# Altium footprint library PcbLib1_2019.2.10.PcbLib: 87 footprints (part 1 of 6)
Each footprint in its own frame and in the unit in brackets; x right, y up, seen from the top. Pads: shape width x height; smd on the part's side, far side on the other; paste and mask are expansions set on the pad; w line width, h text height; cw(c..) or ccw(c..) is an arc to the next point about the centre after c.
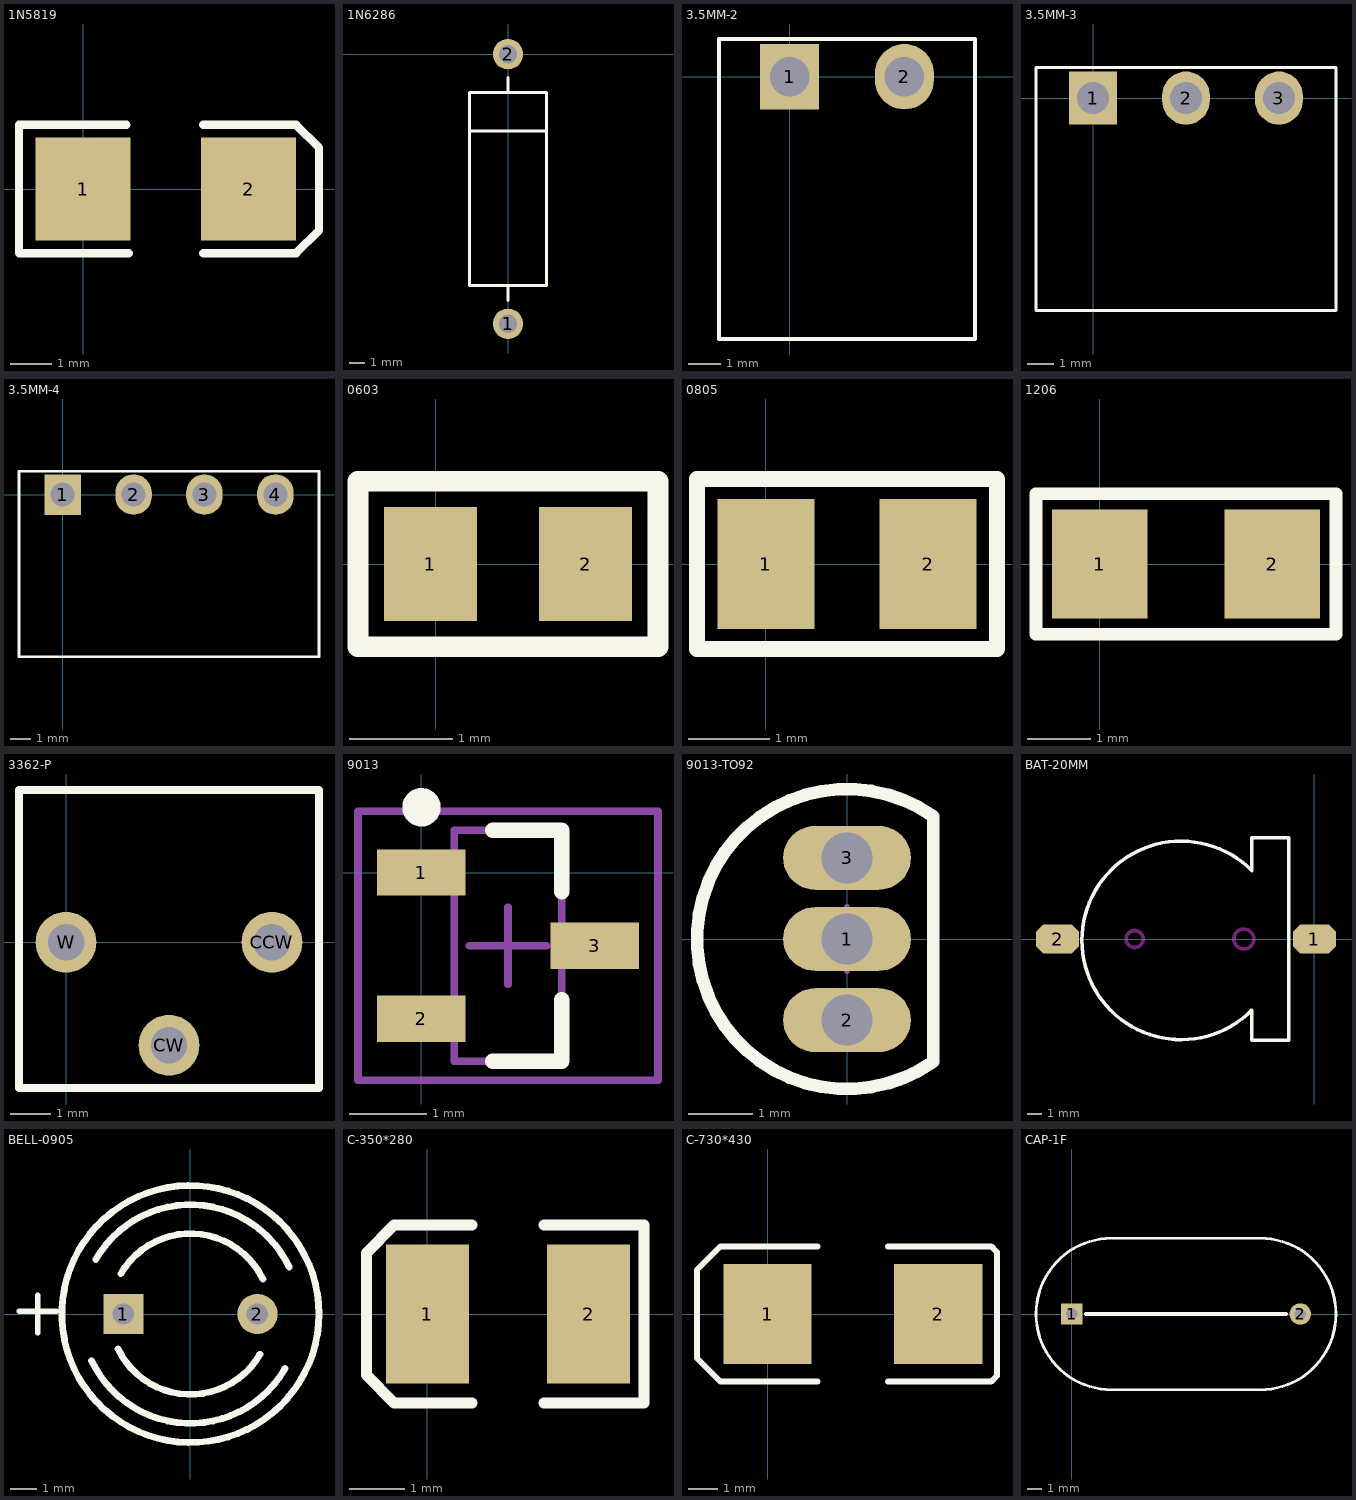
[diagram p0: the footprints below, top view; thin cyan lines are the x and y axes]

## 1N5819 [mm]
pads (2):
  rect 2.3x2.5 smd: 1(0,0) 2(4,0)
Top Overlay:
  lines w0.2: 1.05,1.55 -1.55,1.55 -1.55,-1.55 1.1,-1.55 ; 2.9,-1.55 5.15,-1.55 5.7,-1 5.7,1 5.15,1.55 2.9,1.55

## 1N6286 [mm]
pads (2):
  round 2 hole 1.2: 1(0,-17.78) 2(0,0)
Top Overlay:
  lines w0.2: -2.54,-5.08 2.54,-5.08 ; 0,-16.256 0,-15.24 ; 0,-2.54 0,-1.524 ; -2.54,-15.24 -2.54,-2.54 2.54,-2.54 2.54,-15.24 -2.54,-15.24

## 3.5MM-2 [mm]
pads (2):
  rect 1.8x2 hole 1.2: 1(0,0)
  oval 1.8x2 hole 1.2: 2(3.5,0)
Top Overlay:
  lines w0.127: -2.15,-8 5.65,-8 5.65,1.15 -2.15,1.15 -2.15,-8

## 3.5MM-3 [mm]
pads (3):
  rect 1.8x2 hole 1.2: 1(0,0)
  oval 1.8x2 hole 1.2: 2(3.5,0) 3(7,0)
Top Overlay:
  lines w0.127: -2.15,-8 -2.15,1.15 9.15,1.15 9.15,-8 -2.15,-8

## 3.5MM-4 [mm]
pads (4):
  rect 1.8x2 hole 1.2: 1(0,0)
  oval 1.8x2 hole 1.2: 2(3.5,0) 3(7,0) 4(10.5,0)
Top Overlay:
  lines w0.127: -2.15,-8 -2.15,1.15 12.65,1.15 12.65,-8 -2.15,-8

## 0603 [mm]
pads (2):
  rect 0.9x1.1 smd: 1(-0.05,0) 2(1.45,0)
Top Overlay:
  lines w0.2: -0.75,-0.8 -0.75,0.8 2.15,0.8 2.15,-0.8 -0.75,-0.8

## 0805 [mm]
pads (2):
  rect 1.2x1.6 smd: 1(0,0) 2(2,0)
Top Overlay:
  lines w0.2: -0.85,-1.05 -0.85,1.05 2.85,1.05 2.85,-1.05 -0.85,-1.05

## 1206 [mm]
pads (2):
  rect 1.5x1.7 smd: 1(0,0) 2(2.7,0)
Top Overlay:
  lines w0.2: -1,-1.1 3.7,-1.1 3.7,1.1 -1,1.1 -1,-1.1

## 3362-P [mm]
pads (3):
  round 1.5 hole 0.9: CCW(5.08,0) CW(2.54,-2.54) W(0,0)
Top Overlay:
  lines w0.2: -1.16,-3.6 6.24,-3.6 6.24,3.76 -1.16,3.76 -1.16,-3.6

## 9013 [mm]
pads (3):
  rect 1.15x0.6 smd: 1(0,0) 2(0,-1.9) 3(2.25,-0.95)
Top Overlay:
  circle w0.25: c0,0.85 r0.125
  lines w0.2: 0.925,-2.45 1.825,-2.45 1.825,-1.65 ; 0.925,0.55 1.825,0.55 1.825,-0.25
Mechanical 13:
  lines w0.1: 0.425,-2.45 0.425,0.55 1.825,0.55 1.825,-2.45 0.425,-2.45
Mechanical 15:
  lines w0.1: 0.625,-0.95 1.625,-0.95 ; 1.125,-1.45 1.125,-0.45 ; -0.825,-2.7 -0.825,0.8 3.075,0.8 3.075,-2.7 -0.825,-2.7
3D body: height 1.14, standoff 0, extent 0.425,-2.45 1.825,0.55

## 9013-TO92 [mm]
pads (3):
  oval 2x1 hole 0.8: 1(0,0) 2(0,-1.27) 3(0,1.27)
Top Overlay:
  lines w0.2: 1.35,-1.92 cw(c0,0) 1.35,1.92 1.35,-1.75 1.35,-1.92
Mechanical 15:
  lines w0.1: -0.5,0 0.5,0 ; 0,-0.5 0,0.5

## BAT-20MM [mil]
pads (2):
  oct 120x80 smd: 1(0,0) 2(-712.83,0)
Top Overlay:
  lines w9.84: -173.67,-197.38 cw(c-369.9,-3.88) -173.54,189.49
  lines w10: -174.21,-197.38 -174.21,-280.71 -71.21,-280.71 -71.21,280.71 -174.06,280.71 -174.06,189.49
Keep-Out Layer:
  circle w10: c-498.95,0 r23.62
  circle w10: c-195.8,0 r27.56

## BELL-0905 [mm]
pads (2):
  rect 1.5x1.5 hole 0.8: 1(-2.5,0)
  round 1.5 hole 0.8: 2(2.5,0)
Top Overlay:
  circle w0.254: c0,0 r4.8
  lines w0.2: -6.4,0.1 -5,0.1 ; -5.7,-0.7 -5.7,0.7
  lines w0.254: -3.69,-1.742 ccw(c0,0) 3.536,-2.036 ; -3.536,2.036 cw(c0,0) 3.69,1.742 ; -2.705,-1.302 ccw(c0,0) 2.6,-1.5 ; -2.6,1.5 cw(c0,0) 2.705,1.302

## C-350*280 [mm]
pads (2):
  rect 1.5x2.5 smd: 1(0,0) 2(2.9,0)
Top Overlay:
  lines w0.2: 0.8,-1.6 -0.6,-1.6 -1.1,-1.1 -1.1,1.1 -0.6,1.6 0.8,1.6 ; 2.1,-1.6 3.9,-1.6 3.9,1.6 2.1,1.6

## C-730*430 [mm]
pads (2):
  rect 3x3.4 smd: 1(0,0) 2(5.8,0)
Top Overlay:
  lines w0.2: 1.7,-2.3 -0.8,-2.3 -1.6,-2.3 -2.4,-1.5 -2.4,1.5 -1.6,2.3 -0.8,2.3 1.7,2.3 ; 4.1,-2.3 7.6,-2.3 7.8,-2.1 7.8,2.1 7.6,2.3 4.1,2.3

## CAP-1F [mm]
pads (2):
  rect 1.5x1.5 hole 0.8: 1(0,0)
  round 1.5 hole 0.8: 2(16,0)
Top Overlay:
  lines w0.2: -2.5,-0.2 -2.5,0.1 ; 2.6,-5.3 13.2,-5.3 ccw(c13.2,0) 13.2,5.3 ; 2.7,5.3 13.5,5.3 ; 2.8,-5.3 cw(c2.8,0) 2.8,5.3
  lines w0.254: 1,0 15,0